# EAGLE library part MOTORDRV (library MouseLib)
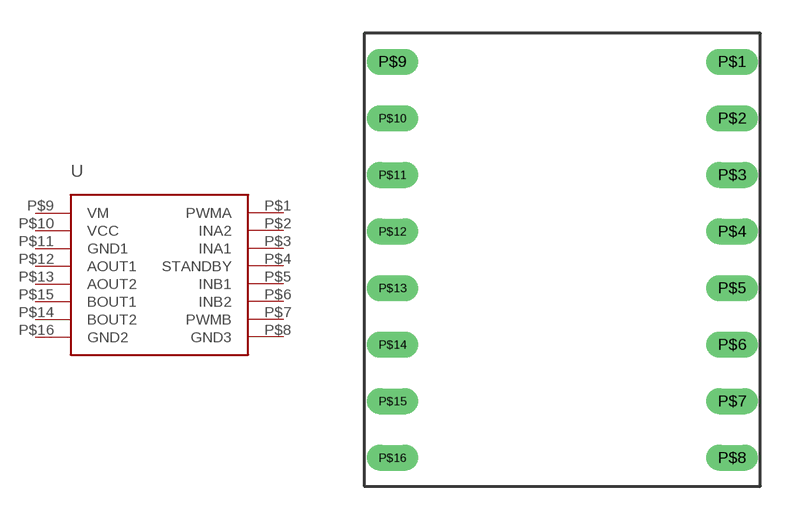
[diagram p1: symbol with the pads of 16PINS; footprint 16PINS]

Designator prefix -

## MOTORDRV  [16PINS]
P$1  PWMA  in
P$2  INA2  in
P$3  INA1  in
P$4  STANDBY  in
P$5  INB1  in
P$6  INB2  in
P$7  PWMB  in
P$8  GND3  pwr
P$9  VM  pwr
P$10  VCC  pwr
P$11  GND1  pwr
P$12  AOUT1  out
P$13  AOUT2  out
P$14  BOUT2  out
P$15  BOUT1  out
P$16  GND2  pwr

## Footprint 16PINS (pad centres in mm)
drill 0.65 long: P$1 6.35,8.89; P$2 6.35,6.35; P$3 6.35,3.81; P$4 6.35,1.27; P$5 6.35,-1.27; P$6 6.35,-3.81; P$7 6.35,-6.35; P$8 6.35,-8.89; P$9 -8.89,8.89; P$10 -8.89,6.35; P$11 -8.89,3.81; P$12 -8.89,1.27; P$13 -8.89,-1.27; P$14 -8.89,-3.81; P$15 -8.89,-6.35; P$16 -8.89,-8.89